# Altium footprint library USB.PcbLib: 17 footprints (part 2 of 2)
Each footprint in its own frame and in the unit in brackets; x right, y up, seen from the top. Pads: shape width x height; smd on the part's side, far side on the other; paste and mask are expansions set on the pad; w line width, h text height; cw(c..) or ccw(c..) is an arc to the next point about the centre after c.
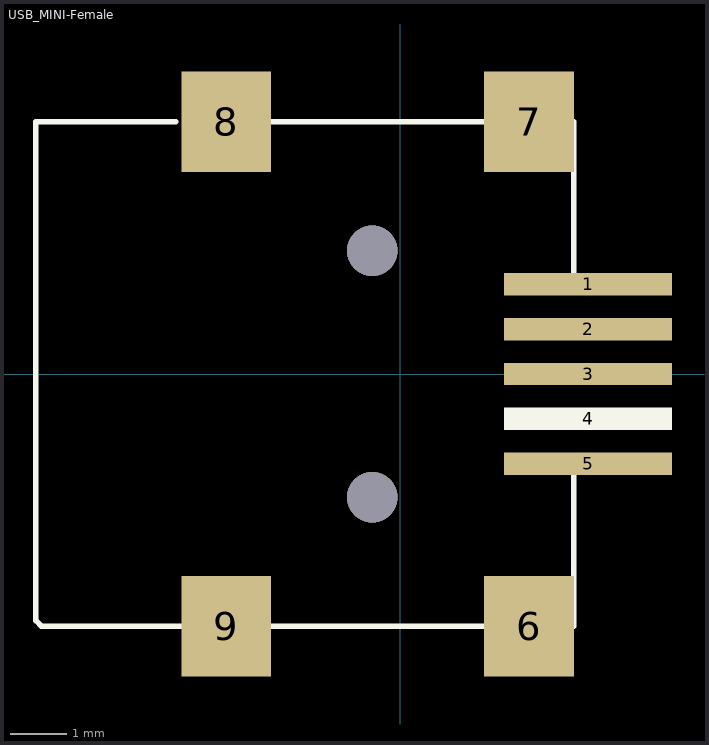
[diagram p1: the footprint, top view; thin cyan lines are the x and y axes]

## USB_MINI-Female [mm]
pads (9):
  rect 3x0.4 smd: 1(3.354,1.6) 2(3.354,0.8) 3(3.354,0) 5(3.354,-1.6)
  rect 3x0.4 on Top Overlay: 4(3.354,-0.8)
  rect 1.6x1.8 smd: 6(2.3,-4.5) 7(2.3,4.5) 8(-3.1,4.5) 9(-3.1,-4.5)
via -0.5,2.2 diameter 0.9 hole 0.9
via -0.5,-2.2 diameter 0.9 hole 0.9
Top Overlay:
  lines w0.1: -4,4.5 -6.5,4.5 -6.5,-4.4 -6.4,-4.5 -3.9,-4.5 ; -2.3,-4.5 1.5,-4.5 ; -2.3,4.5 1.5,4.5 ; 3.1,-4.5 3.1,-1.8 ; 3.1,1.8 3.1,4.5
3D body: height 4.95, standoff 0, extent -5.9,-5.35 3.3,5.35